# EAGLE library part LM2825N (library baiyun)
Positive Voltage Regulator
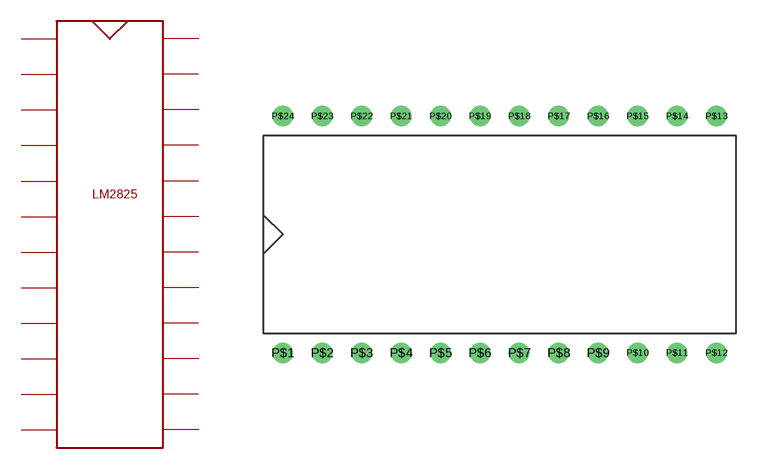
[diagram p199: symbol with the pads of NA24F; footprint NA24F]

Designator prefix -

## LM2825N  [NA24F]
P$1  P$1
P$2  P$2
P$3  P$3
P$4  P$4
P$5  P$5
P$6  P$6
P$7  P$7
P$8  P$8
P$9  P$9  nc
P$10  P$10
P$11  P$11
P$12  P$12
P$13  P$13
P$14  P$14
P$15  P$15  nc
P$16  P$16
P$17  P$17
P$18  P$18
P$19  P$19
P$20  P$20
P$21  P$21
P$22  P$22  nc
P$23  P$23
P$24  P$24  nc

## Footprint NA24F (pad centres in mm)
NA24F
drill 0.813 round: P$1 -15.24,-7.62; P$2 -12.7,-7.62; P$3 -10.16,-7.62; P$4 -7.62,-7.62; P$5 -5.08,-7.62; P$6 -2.54,-7.62; P$7 0,-7.62; P$8 2.54,-7.62; P$9 5.08,-7.62; P$10 7.62,-7.62; P$11 10.16,-7.62; P$12 12.7,-7.62; P$13 12.7,7.62; P$14 10.16,7.62; P$15 7.62,7.62; P$16 5.08,7.62; P$17 2.54,7.62; P$18 0,7.62; P$19 -2.54,7.62; P$20 -5.08,7.62; P$21 -7.62,7.62; P$22 -10.16,7.62; P$23 -12.7,7.62; P$24 -15.24,7.62